# Altium footprint library SLF7045.PcbLib: 1 footprints
Each footprint in its own frame and in the unit in brackets; x right, y up, seen from the top. Pads: shape width x height; smd on the part's side, far side on the other; paste and mask are expansions set on the pad; w line width, h text height; cw(c..) or ccw(c..) is an arc to the next point about the centre after c.
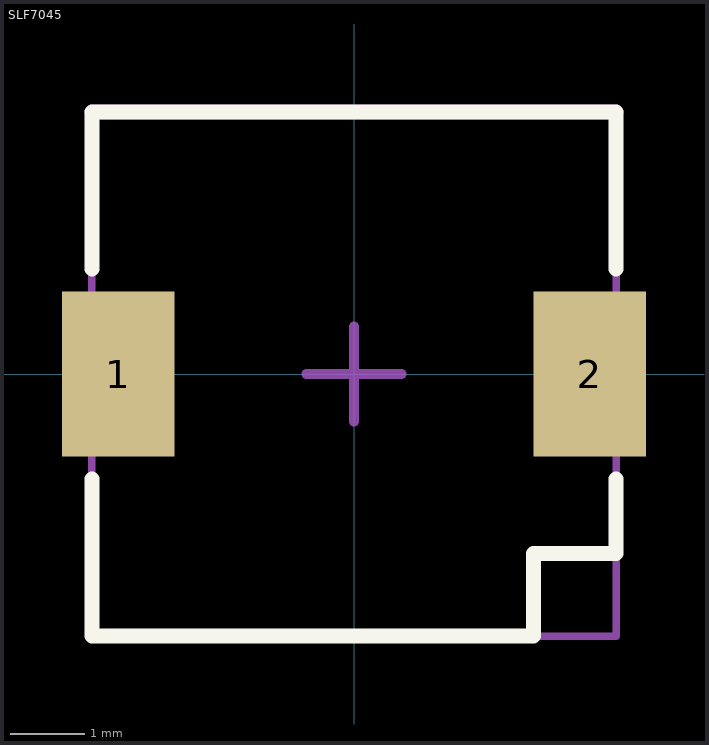
[diagram p0: the footprint, top view; thin cyan lines are the x and y axes]

## SLF7045 [mm]
pads (2):
  rect 1.5x2.2 smd mask+0.051: 1(-3.15,0) 2(3.15,0)
Top Overlay:
  lines w0.2: -3.5,-1.4 -3.5,-3.5 2.4,-3.5 2.4,-2.4 3.5,-2.4 3.5,-1.4 ; -3.5,1.4 -3.5,3.5 3.5,3.5 3.5,1.4
Mechanical 13:
  lines w0.1: -3.5,3.5 -3.5,-3.5 3.5,-3.5 3.5,3.5
  lines w0.2: -3.5,3.5 3.5,3.5
Mechanical 15:
  lines w0.127: -0.635,0 0.635,0 ; 0,-0.635 0,0.635 0,-0.635
3D body "SLF7045T-4R7M2R0-PF.STEP": height 4.66, standoff -0.14, extent -3.5,-3.5 3.5,3.5